# EAGLE library part MCP7383 (library Eagle_CAD_parts)
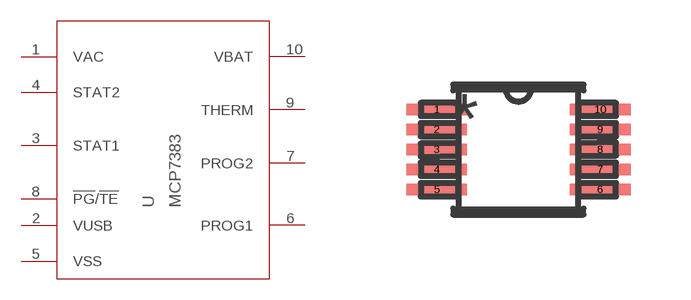
[diagram p23: symbol with the pads of 10-MSOP-MC; footprint 10-MSOP-MC]

Designator prefix U

## MCP73837T-FCI/UN (DIGIKEY_PART_NUMBER: MCP73837T-FCI/UNCT-ND; MANUFACTURER_PART_NUMBER: MCP73837TFCIUN; VENDOR: Microchip)  [10-MSOP-MC]
1  VAC  pas
2  VUSB  pas
3  STAT1  pas
4  STAT2  pas
5  VSS  pas
6  PROG1  pas
7  PROG2  pas
8  !PG!/!TE!  pas
9  THERM  pas
10  VBAT  pas

## MCP73838T-FCI/UN (DIGIKEY_PART_NUMBER: MCP73838T-FCI/UN-ND; MANUFACTURER_PART_NUMBER: MCP73838T-FCI/UN)  [10-MSOP-MC]
Pads as for 10-MSOP-MC

## Footprint 10-MSOP-MC (pad centres in mm)
smd 1.524 x 0.279: 1 -2.045,1; 2 -2.045,0.5; 3 -2.045,0; 4 -2.045,-0.5; 5 -2.045,-1; 6 2.045,-1; 7 2.045,-0.5; 8 2.045,0; 9 2.045,0.5; 10 2.045,1